# Altium schematic symbol library USB.SchLib: 1 symbol
Pins are listed as number, name and electrical type; pins without a type are passive.

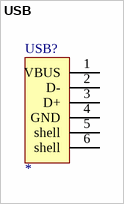
[diagram p0: symbol USB]

## USB
designator USB?
D
footprint USB-A
footprint USB-B
pins: 1 VBUS, 2 D-, 3 D+, 4 GND, 5 shell, 6 shell